# EAGLE library part SFF-8643 (library josh)
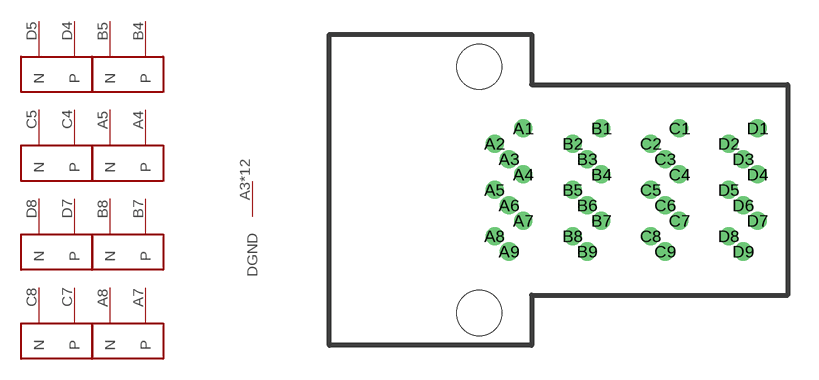
[diagram p1: symbol with the pads of SFF-8643; footprint SFF-8643]

Designator prefix -; gates TX0=DIFF_PAIR RX0=DIFF_PAIR TX1=DIFF_PAIR RX1=DIFF_PAIR TX2=DIFF_PAIR RX2=DIFF_PAIR TX3=DIFF_PAIR RX3=DIFF_PAIR DGND=DGND

## SFF-8643  [SFF-8643]
A3  DGND:DGND  pwr
A4  RX1:P
A5  RX1:N
A6  DGND:DGND  pwr
A7  RX3:P
A8  RX3:N
A9  DGND:DGND  pwr
B3  DGND:DGND  pwr
B4  RX0:P
B5  RX0:N
B6  DGND:DGND  pwr
B7  RX2:P
B8  RX2:N
B9  DGND:DGND  pwr
C3  DGND:DGND  pwr
C4  TX1:P
C5  TX1:N
C6  DGND:DGND  pwr
C7  TX3:P
C8  TX3:N
C9  DGND:DGND  pwr
D3  DGND:DGND  pwr
D4  TX0:P
D5  TX0:N
D6  DGND:DGND  pwr
D7  TX2:P
D8  TX2:N
D9  DGND:DGND  pwr

## Footprint SFF-8643 (pad centres in mm)
drill 0.37 pad 0.61: A1 0.7,3; A2 -0.7,2.25; A3 0,1.5; A4 0.7,0.75; A5 -0.7,0; A6 0,-0.75; A7 0.7,-1.5; A8 -0.7,-2.25; A9 0,-3; B1 4.5,3; B2 3.1,2.25; B3 3.8,1.5; B4 4.5,0.75; B5 3.1,0; B6 3.8,-0.75; B7 4.5,-1.5; B8 3.1,-2.25; B9 3.8,-3; C1 8.3,3; C2 6.9,2.25; C3 7.6,1.5; C4 8.3,0.75; C5 6.9,0; C6 7.6,-0.75; C7 8.3,-1.5; C8 6.9,-2.25; C9 7.6,-3; D1 12.1,3; D2 10.7,2.25; D3 11.4,1.5; D4 12.1,0.75; D5 10.7,0; D6 11.4,-0.75; D7 12.1,-1.5; D8 10.7,-2.25; D9 11.4,-3
hole 2.2 at -1.45,6
hole 2.2 at -1.45,-6